# EAGLE library part 2-794623-0 (library con-amp)
MICRO MATE N LOK Dual Row, grid 1.5 mm Source: http://catalog.tycoelectronics.com .. ENG_CD_794623_F.pdf
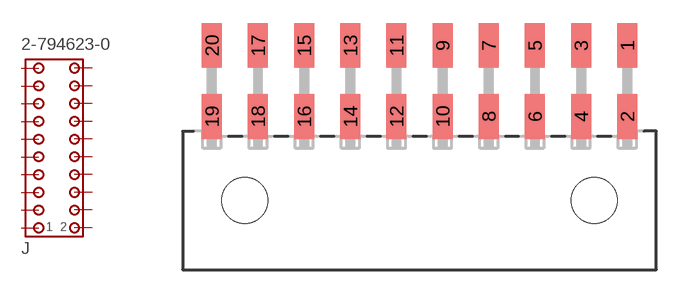
[diagram p148: symbol with the pads of 2-794623-0; footprint 2-794623-0]

Designator prefix J

## 2-794623-0  [2-794623-0]
1  1  pas
2  2  pas
3  3  pas
4  4  pas
5  5  pas
6  6  pas
7  7  pas
8  8  pas
9  9  pas
10  10  pas
11  11  pas
12  12  pas
13  13  pas
14  14  pas
15  15  pas
16  16  pas
17  17  pas
18  18  pas
19  19  pas
20  20  pas

## Footprint 2-794623-0 (pad centres in mm)
MICRO MATE N LOK Dual Row, grid 1.5 mm Source: http://catalog.tycoelectronics.com .. ENG_CD_794623_F.pdf
smd 1.3 x 2.92: 1 13.5,10.1; 2 13.5,5.48; 3 10.5,10.1; 4 10.5,5.48; 5 7.5,10.1; 6 7.5,5.48; 7 4.5,10.1; 8 4.5,5.48; 9 1.5,10.1; 10 1.5,5.48; 11 -1.5,10.1; 12 -1.5,5.48; 13 -4.5,10.1; 14 -4.5,5.48; 15 -7.5,10.1; 16 -7.5,5.48; 17 -10.5,10.1; 18 -10.5,5.48; 19 -13.5,5.48; 20 -13.5,10.1
hole 3 at -11.35,0
hole 3 at 11.35,0